# EAGLE library part M09 (library growbot)
SUB-D
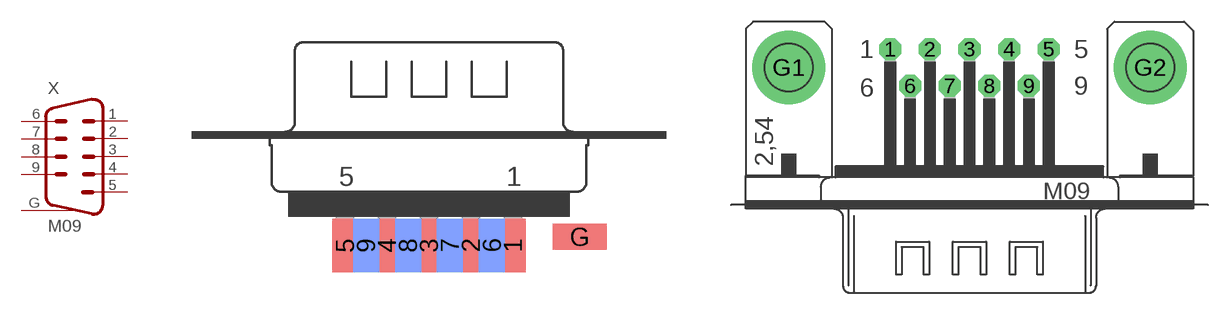
[diagram p17: symbol with the pads of M09D; footprints M09D, M09HP]

Designator prefix X

## M09D (OC_FARNELL: unknown; OC_NEWARK: unknown)  [M09D]
1  1  pas
2  2  pas
3  3  pas
4  4  pas
5  5  pas
6  6  pas
7  7  pas
8  8  pas
9  9  pas
G  G  pas

## M09HP (OC_FARNELL: unknown; OC_NEWARK: unknown)  [M09HP]
1  1  pas
2  2  pas
3  3  pas
4  4  pas
5  5  pas
6  6  pas
7  7  pas
8  8  pas
9  9  pas
G1  G  pas
G2  G  pas

## Footprint M09D (pad centres in mm)
SUB-D
smd 1.7 x 3.5: 1 5.486,-6.045; 2 2.743,-6.045; 3 0,-6.045; 4 -2.743,-6.045; 5 -5.486,-6.045
smd 1.7 x 3.5 bottom: 6 4.115,-6.045; 7 1.372,-6.045; 8 -1.372,-6.045; 9 -4.115,-6.045
smd 3.5 x 1.7: G 9.855,-5.486

## Footprint M09HP (pad centres in mm)
SUB-D
drill 1.016 octagon: 1 -5.486,10.795; 2 -2.743,10.795; 3 0,10.795; 4 2.743,10.795; 5 5.486,10.795; 6 -4.115,8.255; 7 -1.372,8.255; 8 1.372,8.255; 9 4.115,8.255
drill 3.302 pad 5.08: G1 -12.522,9.525; G2 12.522,9.525